# Altium footprint library k7_ext.PcbLib: 274 footprints (part 9 of 18)
Each footprint in its own frame and in the unit in brackets; x right, y up, seen from the top. Pads: shape width x height; smd on the part's side, far side on the other; paste and mask are expansions set on the pad; w line width, h text height; cw(c..) or ccw(c..) is an arc to the next point about the centre after c.
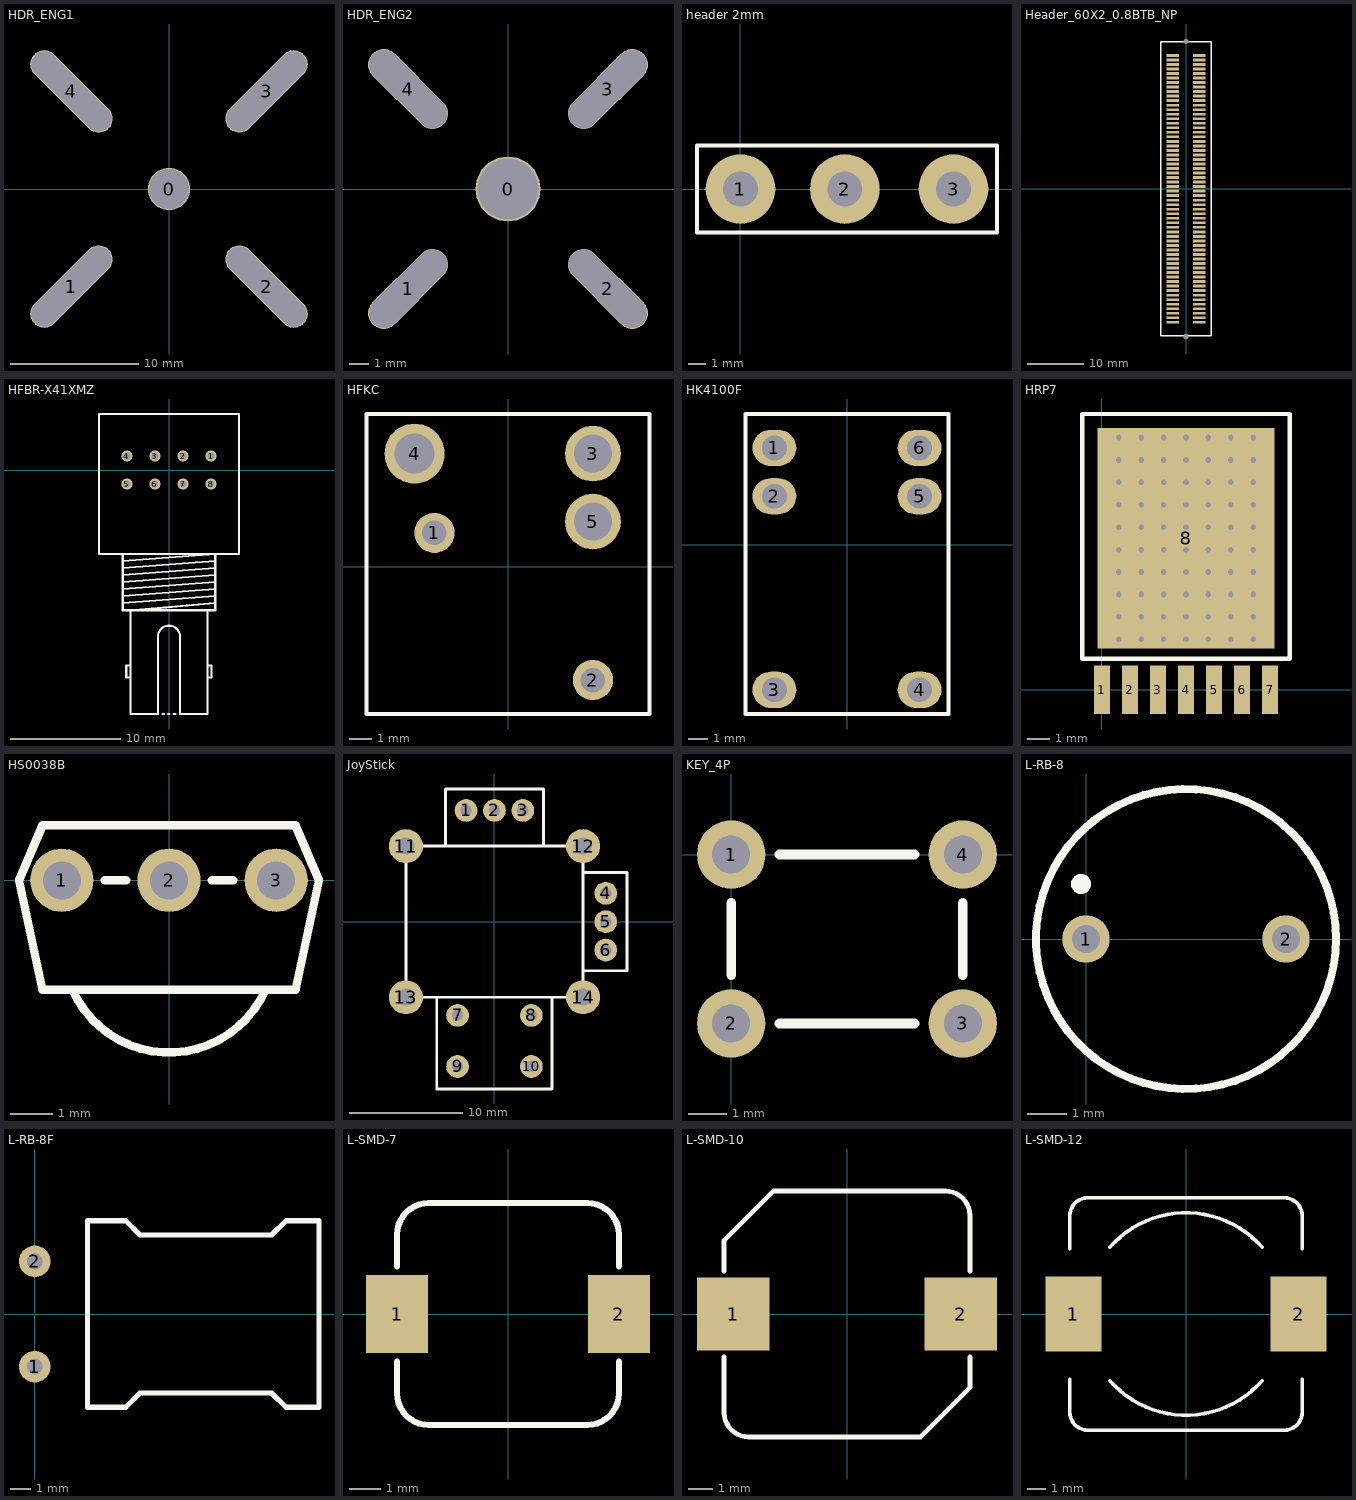
[diagram p8: the footprints below, top view; thin cyan lines are the x and y axes]

## HDR_ENG1 [mm] "舵机"
height 3
pads (5):
  round 3.3 hole 3.1: 0(0,0)
  oval 2.2x8.2 hole 2 slot 8 at 45 deg rot 135: 1(-7.62,-7.62) 3(7.62,7.62)
  oval 2.2x8.2 hole 2 slot 8 at 135 deg rot 45: 2(7.62,-7.62) 4(-7.62,7.62)

## HDR_ENG2 [mm] "舵机"
height 3
pads (5):
  round 3.3 hole 3.1: 0(0,0)
  oval 1.6x5.1 hole 1.5 slot 5 at 45 deg rot 135: 1(-5.08,-5.08) 3(5.08,5.08)
  oval 1.6x5.1 hole 1.5 slot 5 at 135 deg rot 45: 2(5.08,-5.08) 4(-5.08,5.08)

## header 2mm [mm] "2MM X 3"
pads (3):
  round 4 hole 2: 1(0,0) 2(6,0) 3(12.25,0)
Top Overlay:
  lines w0.254: -2.5,-2.5 14.75,-2.5 14.75,2.5 -2.5,2.5 -2.5,-2.5

## Header_60X2_0.8BTB_NP [mm]
pads (122):
  round 0.9 hole 0.9: 0(0,-26.1)
  round 0.8 hole 0.8: 0(0,26.1)
  rect 2.22x0.5 smd: 1(-2.375,-23.6) 2(2.375,-23.6) 3(-2.375,-22.8) 4(2.375,-22.8) 5(-2.375,-22) 6(2.375,-22) 7(-2.375,-21.2) 8(2.375,-21.2) 9(-2.375,-20.4) 10(2.375,-20.4) 11(-2.375,-19.6) 12(2.375,-19.6) 13(-2.375,-18.8) 14(2.375,-18.8) 15(-2.375,-18) 16(2.375,-18) 17(-2.375,-17.2) 18(2.375,-17.2) 19(-2.375,-16.4) 20(2.375,-16.4) 21(-2.375,-15.6) 22(2.375,-15.6) 23(-2.375,-14.8) 24(2.375,-14.8) 25(-2.375,-14) 26(2.375,-14) 27(-2.375,-13.2) 28(2.375,-13.2) 29(-2.375,-12.4) 30(2.375,-12.4) 31(-2.375,-11.6) 32(2.375,-11.6) 33(-2.375,-10.8) 34(2.375,-10.8) 35(-2.375,-10) 36(2.375,-10) 37(-2.375,-9.2) 38(2.375,-9.2) 39(-2.375,-8.4) 40(2.375,-8.4) 41(-2.375,-7.6) 42(2.375,-7.6) 43(-2.375,-6.8) 44(2.375,-6.8) 45(-2.375,-6) 46(2.375,-6) 47(-2.375,-5.2) 48(2.375,-5.2) 49(-2.375,-4.4) 50(2.375,-4.4) 51(-2.375,-3.6) 52(2.375,-3.6) 53(-2.375,-2.8) 54(2.375,-2.8) 55(-2.375,-2) 56(2.375,-2) 57(-2.375,-1.2) 58(2.375,-1.2) 59(-2.375,-0.4) 60(2.375,-0.4) 61(-2.375,0.4) 62(2.375,0.4) 63(-2.375,1.2) 64(2.375,1.2) 65(-2.375,2) 66(2.375,2) 67(-2.375,2.8) 68(2.375,2.8) 69(-2.375,3.6) 70(2.375,3.6) 71(-2.375,4.4) 72(2.375,4.4) 73(-2.375,5.2) 74(2.375,5.2) 75(-2.375,6) 76(2.375,6) 77(-2.375,6.8) 78(2.375,6.8) 79(-2.375,7.6) 80(2.375,7.6) 81(-2.375,8.4) 82(2.375,8.4) 83(-2.375,9.2) 84(2.375,9.2) 85(-2.375,10) 86(2.375,10) 87(-2.375,10.8) 88(2.375,10.8) 89(-2.375,11.6) 90(2.375,11.6) 91(-2.375,12.4) 92(2.375,12.4) 93(-2.375,13.2) 94(2.375,13.2) 95(-2.375,14) 96(2.375,14) 97(-2.375,14.8) 98(2.375,14.8) 99(-2.375,15.6) 100(2.375,15.6) 101(-2.375,16.4) 102(2.375,16.4) 103(-2.375,17.2) 104(2.375,17.2) 105(-2.375,18) 106(2.375,18) 107(-2.375,18.8) 108(2.375,18.8) 109(-2.375,19.6) 110(2.375,19.6) 111(-2.375,20.4) 112(2.375,20.4) 113(-2.375,21.2) 114(2.375,21.2) 115(-2.375,22) 116(2.375,22) 117(-2.375,22.8) 118(2.375,22.8) 119(-2.375,23.6) 120(2.375,23.6)
Top Overlay:
  lines w0.254: -4.5,-26 4.5,-26 4.5,26 -1,26 -4.5,26 -4.5,-26

## HFBR-X41XMZ [mm]
height 10.2
pads (8):
  round 1 hole 0.6: 1(3.81,1.27) 2(1.27,1.27) 3(-1.27,1.27) 4(-3.81,1.27) 5(-3.81,-1.27) 6(-1.27,-1.27) 7(1.27,-1.27) 8(3.81,-1.27)
Top Overlay:
  lines w0.2: -4.2,-12.065 4.2,-11.43 ; -4.2,-11.43 4.2,-10.795 ; -4.2,-10.795 4.2,-10.16 ; -4.2,-10.16 4.2,-9.525 ; -4.2,-9.525 4.2,-8.89 ; -4.2,-8.89 4.191,-8.255 ; -4.191,-8.255 4.2,-7.62 ; -3.5,-18.82 -3.881,-18.82 -3.881,-17.72 -3.5,-17.72 ; -3.175,-12.72 4.2,-12.065 ; -0.579,-22.12 -0.452,-22.12 ; -0.071,-22.12 0.056,-22.12 ; 0.437,-22.12 0.564,-22.12 ; 1,-15.12 1,-22.12 3.5,-22.12 3.5,-12.72 -3.5,-12.72 -3.5,-22.12 -1,-22.12 -1,-15.12 cw(c0,-15.113) 1,-15.113 ; 3.5,-18.82 3.866,-18.82 3.866,-17.72 3.5,-17.72 ; 4.2,-7.62 -4.2,-7.62 -4.2,-12.72 4.2,-12.72 4.2,-7.62 ; -6.35,-7.62 -6.35,5.08 6.35,5.08 6.35,-7.62 -6.35,-7.62

## HFKC [mm] "继电器"
height 11.8
pads (5):
  round 1.8 hole 1.1: 1(-3.302,1.524) 2(3.81,-5.08)
  round 2.5 hole 1.7: 3(3.81,5.08) 5(3.81,2.032)
  round 2.7 hole 1.8: 4(-4.191,5.08)
Top Overlay:
  lines w0.2: -6.35,-6.604 -6.35,6.858 6.35,6.858 6.35,-6.604 -6.35,-6.604

## HK4100F [mm] "继?"
height 11.8
pads (6):
  oval 2.3x1.9 hole 1.3: 1(-3.81,5.08) 2(-3.81,2.54) 3(-3.81,-7.62) 4(3.81,-7.62) 5(3.81,2.54) 6(3.81,5.08)
Top Overlay:
  lines w0.2: -5.334,-8.89 -5.334,6.858 5.334,6.858 5.334,-8.89 -5.334,-8.89
3D body: height 12, standoff 0, extent -5.334,-8.89 5.334,6.858

## HRP7 [mm]
pads (8):
  rect 0.73x2.2 smd: 1(0,0) 2(1.27,0) 3(2.54,0) 4(3.81,0) 5(5.08,0) 6(6.35,0) 7(7.62,0)
  rect 8x10 smd: 8(3.81,6.858)
via 6.858,2.286 diameter 0.635 hole 0.254
via 5.842,2.286 diameter 0.635 hole 0.254
via 4.826,2.286 diameter 0.635 hole 0.254
via 3.81,2.286 diameter 0.635 hole 0.254
via 2.794,2.286 diameter 0.635 hole 0.254
via 1.778,2.286 diameter 0.635 hole 0.254
via 0.762,2.286 diameter 0.635 hole 0.254
via 6.858,3.302 diameter 0.635 hole 0.254
via 5.842,3.302 diameter 0.635 hole 0.254
via 4.826,3.302 diameter 0.635 hole 0.254
via 3.81,3.302 diameter 0.635 hole 0.254
via 2.794,3.302 diameter 0.635 hole 0.254
via 1.778,3.302 diameter 0.635 hole 0.254
via 0.762,3.302 diameter 0.635 hole 0.254
via 6.858,4.318 diameter 0.635 hole 0.254
via 5.842,4.318 diameter 0.635 hole 0.254
via 4.826,4.318 diameter 0.635 hole 0.254
via 3.81,4.318 diameter 0.635 hole 0.254
via 2.794,4.318 diameter 0.635 hole 0.254
via 1.778,4.318 diameter 0.635 hole 0.254
via 0.762,4.318 diameter 0.635 hole 0.254
via 6.858,5.334 diameter 0.635 hole 0.254
via 5.842,5.334 diameter 0.635 hole 0.254
via 4.826,5.334 diameter 0.635 hole 0.254
via 3.81,5.334 diameter 0.635 hole 0.254
via 2.794,5.334 diameter 0.635 hole 0.254
via 1.778,5.334 diameter 0.635 hole 0.254
via 0.762,5.334 diameter 0.635 hole 0.254
via 6.858,6.35 diameter 0.635 hole 0.254
via 5.842,6.35 diameter 0.635 hole 0.254
via 4.826,6.35 diameter 0.635 hole 0.254
via 3.81,6.35 diameter 0.635 hole 0.254
via 2.794,6.35 diameter 0.635 hole 0.254
via 1.778,6.35 diameter 0.635 hole 0.254
via 0.762,6.35 diameter 0.635 hole 0.254
via 6.858,7.366 diameter 0.635 hole 0.254
via 5.842,7.366 diameter 0.635 hole 0.254
via 4.826,7.366 diameter 0.635 hole 0.254
via 3.81,7.366 diameter 0.635 hole 0.254
via 2.794,7.366 diameter 0.635 hole 0.254
via 1.778,7.366 diameter 0.635 hole 0.254
via 0.762,7.366 diameter 0.635 hole 0.254
via 6.858,8.382 diameter 0.635 hole 0.254
via 5.842,8.382 diameter 0.635 hole 0.254
via 4.826,8.382 diameter 0.635 hole 0.254
via 3.81,8.382 diameter 0.635 hole 0.254
via 2.794,8.382 diameter 0.635 hole 0.254
via 1.778,8.382 diameter 0.635 hole 0.254
via 0.762,8.382 diameter 0.635 hole 0.254
via 6.858,9.398 diameter 0.635 hole 0.254
via 5.842,9.398 diameter 0.635 hole 0.254
via 4.826,9.398 diameter 0.635 hole 0.254
via 3.81,9.398 diameter 0.635 hole 0.254
via 2.794,9.398 diameter 0.635 hole 0.254
via 1.778,9.398 diameter 0.635 hole 0.254
via 0.762,9.398 diameter 0.635 hole 0.254
via 6.858,10.414 diameter 0.635 hole 0.254
via 5.842,10.414 diameter 0.635 hole 0.254
via 4.826,10.414 diameter 0.635 hole 0.254
via 3.81,10.414 diameter 0.635 hole 0.254
via 2.794,10.414 diameter 0.635 hole 0.254
via 1.778,10.414 diameter 0.635 hole 0.254
via 0.762,10.414 diameter 0.635 hole 0.254
via 0.762,11.43 diameter 0.635 hole 0.254
via 1.778,11.43 diameter 0.635 hole 0.254
via 2.794,11.43 diameter 0.635 hole 0.254
via 3.81,11.43 diameter 0.635 hole 0.254
via 4.826,11.43 diameter 0.635 hole 0.254
via 5.842,11.43 diameter 0.635 hole 0.254
via 6.858,11.43 diameter 0.635 hole 0.254
Top Overlay:
  lines w0.203: -0.889,1.397 8.509,1.397 8.509,12.497 -0.889,12.497 -0.889,1.397
Bottom Solder:
  rectangle: -0.203,1.778 7.899,11.887

## HS0038B [mm] "红外接收头"
height 6.95
pads (3):
  round 1.5 hole 0.9: 1(-2.54,0) 2(0,0) 3(2.54,0)
Top Overlay:
  lines w0.2: -2.285,-2.599 ccw(c0,-1.584) 2.285,-2.599 ; -1.524,0 -1.016,0 ; 1.016,0 1.524,0 ; -3.556,0 -3,1.3 3,1.3 3.556,0 3,-2.6 -3,-2.6 -3.556,0

## JoyStick [mm] "ģ?"
height 20
pads (14):
  round 2 hole 1: 1(-2.5,9.8) 2(0,9.8) 3(2.5,9.8) 4(9.8,2.5) 5(9.8,0) 6(9.8,-2.5) 7(-3.25,-8.25) 8(3.25,-8.25) 9(-3.25,-12.75) 10(3.25,-12.75)
  round 3 hole 1.5: 11(-7.8,6.65) 12(7.8,6.65) 13(-7.8,-6.65) 14(7.8,-6.65)
Top Overlay:
  lines w0.254: -5.08,-6.65 -5.08,-14.732 5.08,-14.732 5.08,-6.65 ; -4.318,6.65 -4.318,11.684 4.318,11.684 4.318,6.65 ; 7.8,-4.318 11.684,-4.318 11.684,4.318 7.8,4.318 ; -7.8,-6.65 7.8,-6.65 7.8,6.65 -7.8,6.65 -7.8,-6.65

## KEY_4P [mm]
pads (4):
  round 1.8 hole 1: 1(0,0) 2(0,-4.445) 3(6.096,-4.445) 4(6.096,0)
Top Overlay:
  lines w0.254: 0,-3.175 0,-1.27 ; 1.27,-4.445 4.826,-4.445 ; 1.27,0 4.826,0 ; 6.096,-3.175 6.096,-1.27

## L-RB-8 [mm] "Inductor"
pads (2):
  round 1.2 hole 0.7: 1(0,0) 2(5.08,0)
Top Overlay:
  circle w0.2: c2.54,0 r3.81
  circle w0.254: c-0.127,1.397 r0.127

## L-RB-8F [mil] "ֱ?"
height 472.44
pads (2):
  round 60 hole 30: 1(0,-100) 2(0,100)
Top Overlay:
  lines w10: 100,-177.17 100,177.17 172.83,177.17 200,150 450,150 477.17,177.17 540,177.17 540,-177.17 477.17,-177.17 450,-150 200,-150 172.83,-177.17 100,-177.17

## L-SMD-7 [mm] "贴片电感7*7"
pads (2):
  rect 2x2.5 smd: 1(-3.556,0) 2(3.556,0)
Top Overlay:
  lines w0.2: -3.556,-1.524 -3.556,-2.54 ccw(c-2.54,-2.54) -2.54,-3.556 2.54,-3.556 ccw(c2.54,-2.54) 3.556,-2.54 3.556,-1.524 ; -3.556,1.524 -3.556,2.54 cw(c-2.54,2.54) -2.54,3.556 2.54,3.556 cw(c2.54,2.54) 3.556,2.54 3.556,1.524
3D body: height 4, standoff 0, extent -3.556,-3.556 3.556,3.556

## L-SMD-10 [mm] "贴片电感10*10"
pads (2):
  rect 3x3 smd: 1(-4.699,0) 2(4.699,0)
Top Overlay:
  lines w0.2: -5.08,-1.778 -5.08,-4.064 ccw(c-4.064,-4.064) -4.064,-5.08 3.048,-5.08 5.08,-3.048 5.08,-1.778 ; -5.08,1.778 -5.08,3.048 -3.048,5.08 4.064,5.08 cw(c4.064,4.064) 5.08,4.064 5.08,1.778
3D body: height 4, standoff 0, extent -5.08,-5.08 5.08,5.08

## L-SMD-12 [mm] "贴片电感12*12"
height 4
pads (2):
  rect 3x4 smd: 1(-6,0) 2(6,0)
Top Overlay:
  lines w0.2: -6.2,-3.475 -6.2,-5.23 ccw(c-5.23,-5.23) -5.23,-6.2 5.23,-6.2 ccw(c5.23,-5.23) 6.2,-5.23 6.2,-3.475 ; -6.2,3.475 -6.2,5.23 cw(c-5.23,5.23) -5.23,6.2 5.23,6.2 cw(c5.23,5.23) 6.2,5.23 6.2,3.475 ; -4.064,-3.556 ccw(c0,0) 4.064,-3.556 ; -4.064,3.556 cw(c0,0) 4.064,3.556
3D body: height 2.5, standoff 0.3, extent -5.273,-5.303 5.315,5.29
3D body: height 0.6, standoff 0, extent -6.198,-6.223 6.198,6.172